# EAGLE library part 750319020 (library WE-POE++)
WE-PoE++ Power over Ethernet Plus Plus Transformer Characteristics Suitable for CCM Flyback or Active Clamp Forward Different power levels up to 95W Frequency range: 250-400 kHz Different output voltages available Custom designs available Applications Telecom IndustrialApplications WLAN Access Point Safety cameras Intelligent LED Lighting Networks Details see: www.we-online.com/en/components/products/WE-POE-PLUS-PLUS Created by Ella 2024-01-30 2024(C) Würth Elektronik
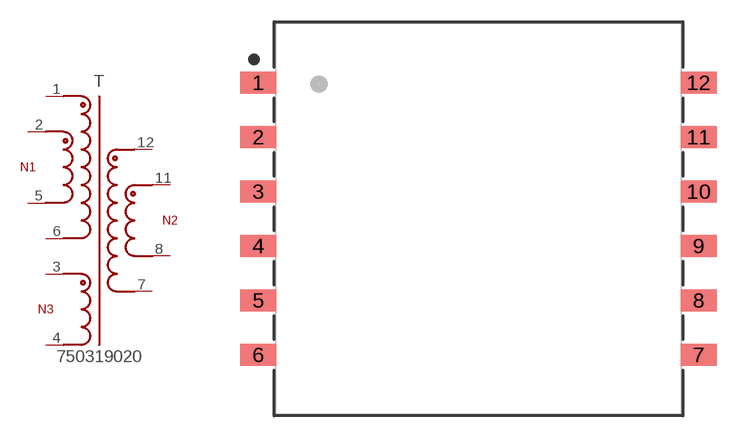
[diagram p6: symbol with the pads of WE-POE++_EFD25_L32.45W27.03H13.97; footprint WE-POE++_EFD25_L32.45W27.03H13.97]

Designator prefix T

## 750319020 (DATASHEET: https://www.we-online.com/redexpert/spec/750319020?ae; HEIGHT: 13.97mm; IO1: 19A; ISAT: 11.4A; L: 17uH; LENGTH: 27.03mm; MOUNT: SMT; PART-NUMBER: 750319020; SIZE: EFD25; TURNS-RATIO: 5:1:2.5; VALUE: 17uH; VAUX: 12V; VERSION: CCM Flyback; VIN: 33 - 57 V (DC); VO1: 5V; VT: 1500VAC; WIDTH: 32.45mm)  [WE-POE++_EFD25_L32.45W27.03H13.97]
1  1  pas
2  2  pas
3  3  pas
4  4  pas
5  5  pas
6  6  pas
7  7  pas
8  8  pas
11  11  pas
12  12  pas

## Footprint WE-POE++_EFD25_L32.45W27.03H13.97 (pad centres in mm)
WE-PoE++ Power over Ethernet Plus Plus Transformer Size: EFD20, SMT, 12Pins LXWXH=29.65X21.8X11.43mm
smd 2.5 x 1.52: 1 -15.19,9.4; 2 -15.19,5.64; 3 -15.19,1.88; 4 -15.19,-1.88; 5 -15.19,-5.64; 6 -15.19,-9.4; 7 15.19,-9.4; 8 15.19,-5.64; 9 15.19,-1.88; 10 15.19,1.88; 11 15.19,5.64; 12 15.19,9.4